# Altium schematic symbol library HY_RELAY_2_FORM_C.SchLib: 2 symbols
Pins are listed as number, name and electrical type; pins without a type are passive.

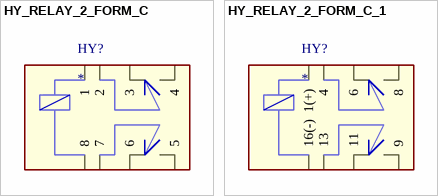
[diagram p0: symbols HY_RELAY_2_FORM_C to HY_RELAY_2_FORM_C_1]

## HY_RELAY_2_FORM_C
designator HY?
pins: 1, 2, 3, 4, 5, 6, 7, 8

## HY_RELAY_2_FORM_C_1
designator HY?
pins: 1 1(+), 4, 6, 8, 9, 11, 13, 16 16(-)